# Altium footprint library PcbLib1_therm.PcbLib: 1 footprints
Each footprint in its own frame and in the unit in brackets; x right, y up, seen from the top. Pads: shape width x height; smd on the part's side, far side on the other; paste and mask are expansions set on the pad; w line width, h text height; cw(c..) or ccw(c..) is an arc to the next point about the centre after c.
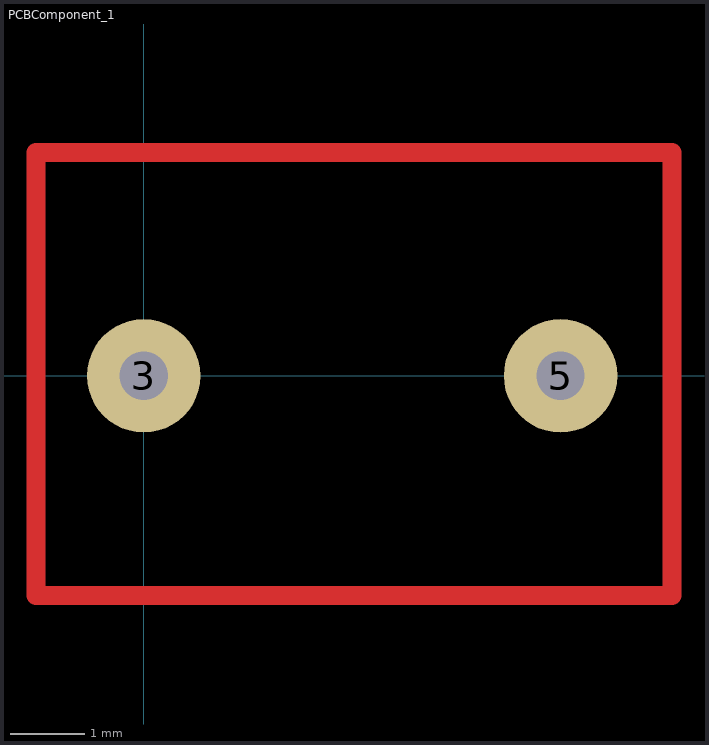
[diagram p0: the footprint, top view; thin cyan lines are the x and y axes]

## PCBComponent_1 [mil]
pads (2):
  round 60 hole 25.59: 3(0,0) 5(220.47,0)
Top Layer:
  lines w10: -57.09,-116.14 279.53,-116.14 279.53,118.11 -57.09,118.11 -57.09,-116.14